# Altium footprint library fromST.PcbLib: 65 footprints (part 2 of 5)
Each footprint in its own frame and in the unit in brackets; x right, y up, seen from the top. Pads: shape width x height; smd on the part's side, far side on the other; paste and mask are expansions set on the pad; w line width, h text height; cw(c..) or ccw(c..) is an arc to the next point about the centre after c.
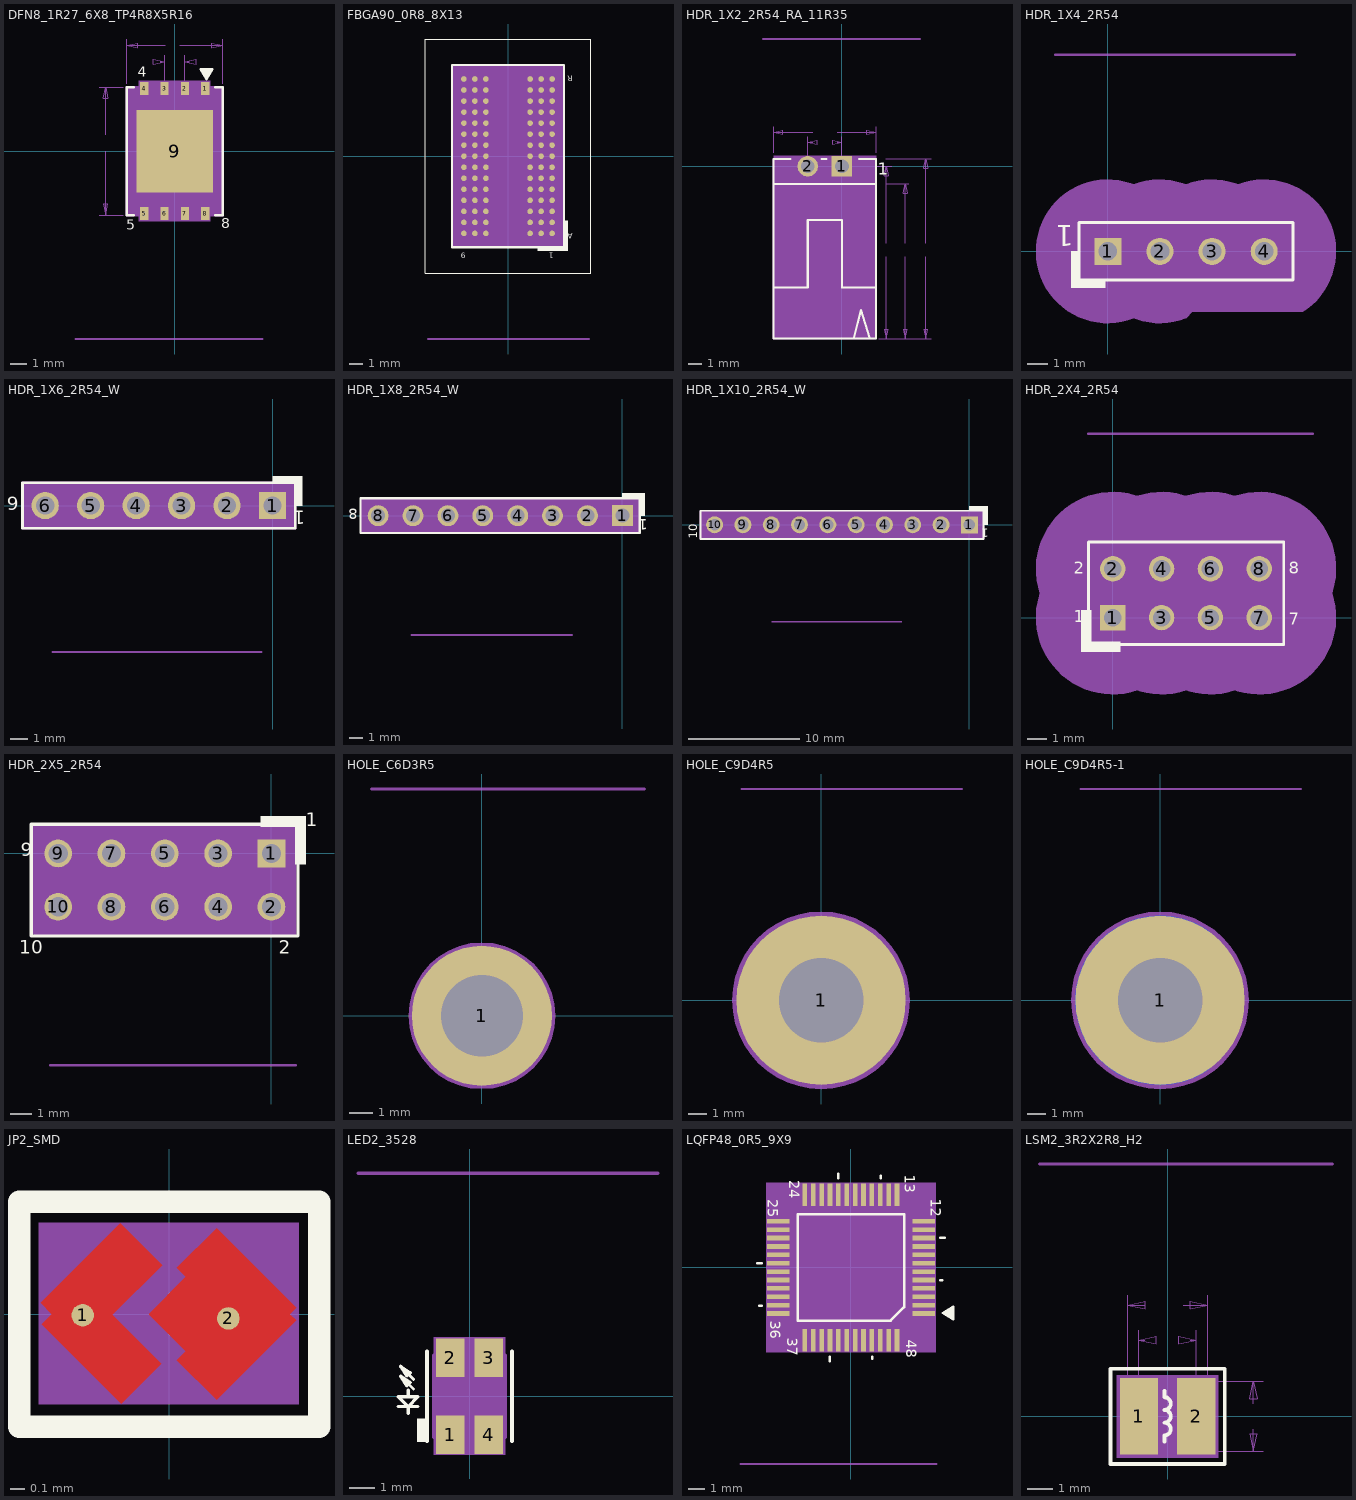
[diagram p1: the footprints below, top view; thin cyan lines are the x and y axes]

## DFN8_1R27_6X8_TP4R8X5R16 [mil]
pads (9):
  rect 20x32 smd: 1(75,153.54) 2(25,153.54) 3(-25,153.54) 4(-75,153.54) 5(-75,-153.54) 6(-25,-153.54) 7(25,-153.54) 8(75,-153.54)
  rect 189x203 smd: 9(0,0)
Top Overlay:
  lines w5: 79,187.5 74,187.5 78,181.5 84,190.5 73,190.5 71,193.5 86,193.5 88,197.5 68,197.5 68,201.5 63,201.5 ; 63,201.5 93,201.5 78,176.5 63,201.5
  lines w6: -100,-157.48 -118.11,-157.48 -118.11,157.48 -100,157.48 ; 100,-157.48 118.11,-157.48 118.11,157.48 100,157.48
  text ".Designator" at -54,230 h30
  text "4" at -91,183 h25
  text "5" at -119,-193 h25
  text "8" at 115,-190 h25
Mechanical 32:
  circle w20: c75,140 r10
  region: -119,160 -119,-160 -88,-160 -88,-173 88,-173 88,-160 120,-160 120,160 88,160 88,173 -88,173 -88,160
  lines w1: -185.75,-157.48 -125.98,-157.48 ; -185.75,157.48 -125.98,157.48 ; -170,0 -170,-157.48 ; -170,40 -170,157.48 ; -118.11,165.35 -118.11,275.75 ; -36,220 -25,220 ; -25,161.42 -25,235.75 ; -23,260 -118.11,260 ; 13,260 118.11,260 ; 25,161.42 25,235.75 ; 36,220 25,220 ; 118.11,165.35 118.11,275.75 ; -170,-157.48 -175.91,-129.92 -164.09,-129.92 -170,-157.48 ; -170,157.48 -164.09,129.92 -175.91,129.92 -170,157.48 ; -118.11,260 -90.55,265.91 -90.55,254.09 -118.11,260 ; -25,220 -52.56,214.09 -52.56,225.91 -25,220 ; 25,220 52.56,225.91 52.56,214.09 25,220 ; 118.11,260 90.55,254.09 90.55,265.91 118.11,260
  lines w5: -244,-462 216,-462 ; -118.11,-157.48 -118.11,157.48 118.11,157.48 118.11,-157.48 -118.11,-157.48
  text "9" at 17.8,-5 h16
  text "4" at -68.6,153.54 h16
  text "8" at 81.4,-153.54 h16
  text "3" at -18.6,153.54 h16
  text "5" at -68.6,-153.54 h16
  text "2" at 31.4,153.54 h16
  text "7" at 31.4,-153.54 h16
  text "6" at -18.6,-153.54 h16
  text "1" at 81.4,153.54 h16
  text "DFN8_1R27_6X8_TP4R8X5R16" at 273,360 h30
  text "N25Q512A13GF840E (MICRON)" at 295,360 h30
  text "Sofer Lib Information" at 216,-472 h25
  text "Ref PN: N25Q512A13GF840E" at 186,-422 h25
  text "Creat : Ziv" at 186,-382 h25
  text "Date  : 2016-02-22" at 186,-342 h25
  text "Rev   : A1" at 186,-302 h25
  text "Remark: D031-019A2" at 186,-262 h25
  text "NO" at 28,0 h35
  text "1.27" at 24,228 h16
  text "6" at 1,268 h16
  text "8" at -164,28 h16
3D body: height 150, standoff 0, extent -119,-173 120,173

## FBGA90_0R8_8X13 [mil]
pads (90):
  round 16 smd mask+2: A1(125.98,-220.47) A2(94.49,-220.47) A3(62.99,-220.47) A7(-62.99,-220.47) A8(-94.49,-220.47) A9(-125.98,-220.47) B1(125.98,-188.98) B2(94.49,-188.98) B3(62.99,-188.98) B7(-62.99,-188.98) B8(-94.49,-188.98) B9(-125.98,-188.98) C1(125.98,-157.48) C2(94.49,-157.48) C3(62.99,-157.48) C7(-62.99,-157.48) C8(-94.49,-157.48) C9(-125.98,-157.48) D1(125.98,-125.98) D2(94.49,-125.98) D3(62.99,-125.98) D7(-62.99,-125.98) D8(-94.49,-125.98) D9(-125.98,-125.98) E1(125.98,-94.49) E2(94.49,-94.49) E3(62.99,-94.49) E7(-62.99,-94.49) E8(-94.49,-94.49) E9(-125.98,-94.49) F1(125.98,-62.99) F2(94.49,-62.99) F3(62.99,-62.99) F7(-62.99,-62.99) F8(-94.49,-62.99) F9(-125.98,-62.99) G1(125.98,-31.5) G2(94.49,-31.5) G3(62.99,-31.5) G7(-62.99,-31.5) G8(-94.49,-31.5) G9(-125.98,-31.5) H1(125.98,0) H2(94.49,0) H3(62.99,0) H7(-62.99,0) H8(-94.49,0) H9(-125.98,0) J1(125.98,31.5) J2(94.49,31.5) J3(62.99,31.5) J7(-62.99,31.5) J8(-94.49,31.5) J9(-125.98,31.5) K1(125.98,62.99) K2(94.49,62.99) K3(62.99,62.99) K7(-62.99,62.99) K8(-94.49,62.99) K9(-125.98,62.99) L1(125.98,94.49) L2(94.49,94.49) L3(62.99,94.49) L7(-62.99,94.49) L8(-94.49,94.49) L9(-125.98,94.49) M1(125.98,125.98) M2(94.49,125.98) M3(62.99,125.98) M7(-62.99,125.98) M8(-94.49,125.98) M9(-125.98,125.98) N1(125.98,157.48) N2(94.49,157.48) N3(62.99,157.48) N7(-62.99,157.48) N8(-94.49,157.48) N9(-125.98,157.48) P1(125.98,188.98) P2(94.49,188.98) P3(62.99,188.98) P7(-62.99,188.98) P8(-94.49,188.98) P9(-125.98,188.98) R1(125.98,220.47) R2(94.49,220.47) R3(62.99,220.47) R7(-62.99,220.47) R8(-94.49,220.47) R9(-125.98,220.47)
Top Overlay:
  pour cut-out: 85,-260 85,-270 170,-270 170,-185 160,-185 160,-260
  lines w1: -236.22,-334.65 236.22,-334.65 236.22,334.65 -236.22,334.65 -236.22,-334.65
  lines w5.91: -160,-260 -160,260 160,260 160,-260 -160,-260
  text "A" at 185,-220 h15.98
  text "1" at 130,-275 h15.98
  text "9" at -120,-275 h15.98
  text "R" at 185,230 h15.98
Mechanical 16:
  pour cut-out: -20,-255 155,-80 155,-255
  region: 155,255.91 -155,255.91 -155,-255.91 155,-255.91
  lines w5: -229,-522 231,-522 ; -157.48,-255.91 157.48,-255.91 157.48,255.91 -157.48,255.91 -157.48,-255.91
Mechanical 32:
  text "OK" at 0,-28 h35
  text "MT48LC4M32B2B5-6A  (MICRON)" at -15,1 h30
  text "FBGA90_0R8_8X13" at -5,145 h30
  text "Remark: ***" at 201,-322 h25
  text "Rev   : A1" at 201,-362 h25
  text "Date  : 2008-07-29" at 201,-402 h25
  text "Creat : Yuki" at 201,-442 h25
  text "Ref PN: MT48LC2M3B2B5" at 201,-482 h25
  text "Sofer Lib Information" at 231,-532 h25
  text ".Designator" at -5,-35 h50
  text "J2" at 94.49,18.7 h16
  text "F2" at 94.49,-75.79 h16
  text "F8" at -94.49,-75.79 h16
  text "J8" at -94.49,18.7 h16
  text "K7" at -62.99,50.19 h16
  text "J1" at 125.98,18.7 h16
  text "J9" at -125.98,18.7 h16
  text "K1" at 125.98,50.19 h16
  text "K9" at -125.98,50.19 h16
  text "E7" at -62.99,-107.29 h16
  text "H7" at -62.99,-12.8 h16
  text "K3" at 62.99,50.19 h16
  text "K2" at 94.49,50.19 h16
  text "H3" at 62.99,-12.8 h16
  text "E2" at 94.49,-107.29 h16
  text "D3" at 62.99,-138.78 h16
  text "D2" at 94.49,-138.78 h16
  text "B1" at 125.98,-201.78 h16
  text "C2" at 94.49,-170.28 h16
  text "A1" at 125.98,-233.27 h16
  text "C3" at 62.99,-170.28 h16
  text "A2" at 94.49,-233.27 h16
  text "A8" at -94.49,-233.27 h16
  text "C7" at -62.99,-170.28 h16
  text "A9" at -125.98,-233.27 h16
  text "C8" at -94.49,-170.28 h16
  text "B9" at -125.98,-201.78 h16
  text "D8" at -94.49,-138.78 h16
  text "D7" at -62.99,-138.78 h16
  text "E8" at -94.49,-107.29 h16
  text "K8" at -94.49,50.19 h16
  text "H8" at -94.49,-12.8 h16
  text "J7" at -62.99,18.7 h16
  text "E3" at 62.99,-107.29 h16
  text "H9" at -125.98,-12.8 h16
  text "G7" at -62.99,-44.3 h16
  text "J3" at 62.99,18.7 h16
  text "H2" at 94.49,-12.8 h16
  text "H1" at 125.98,-12.8 h16
  text "G3" at 62.99,-44.3 h16
  text "G2" at 94.49,-44.3 h16
  text "G1" at 125.98,-44.3 h16
  text "F3" at 62.99,-75.79 h16
  text "F7" at -62.99,-75.79 h16
  text "G9" at -125.98,-44.3 h16
  text "G8" at -94.49,-44.3 h16
  text "N2" at 94.49,144.68 h16
  text "P1" at 125.98,176.18 h16
  text "M2" at 94.49,113.18 h16
  text "M3" at 62.99,113.18 h16
  text "L2" at 94.49,81.69 h16
  text "L8" at -94.49,81.69 h16
  text "M7" at -62.99,113.18 h16
  text "M8" at -94.49,113.18 h16
  text "P9" at -125.98,176.18 h16
  text "N7" at -62.99,144.68 h16
  text "R8" at -94.49,207.67 h16
  text "R2" at 94.49,207.67 h16
  text "N3" at 62.99,144.68 h16
  text "R1" at 125.98,207.67 h16
  text "N8" at -94.49,144.68 h16
  text "R9" at -125.98,207.67 h16
  text "L1" at 125.98,81.69 h16
  text "E1" at 125.98,-107.29 h16
  text "P7" at -62.99,176.18 h16
  text "P2" at 94.49,176.18 h16
  text "B2" at 94.49,-201.78 h16
  text "B7" at -62.99,-201.78 h16
  text "R7" at -62.99,207.67 h16
  text "M9" at -125.98,113.18 h16
  text "N9" at -125.98,144.68 h16
  text "L7" at -62.99,81.69 h16
  text "F9" at -125.98,-75.79 h16
  text "C9" at -125.98,-170.28 h16
  text "D9" at -125.98,-138.78 h16
  text "A7" at -62.99,-233.27 h16
  text "M1" at 125.98,113.18 h16
  text "F1" at 125.98,-75.79 h16
  text "C1" at 125.98,-170.28 h16
  text "D1" at 125.98,-138.78 h16
  text "N1" at 125.98,144.68 h16
  text "P3" at 62.99,176.18 h16
  text "R3" at 62.99,207.67 h16
  text "L3" at 62.99,81.69 h16
  text "A3" at 62.99,-233.27 h16
  text "B3" at 62.99,-201.78 h16
  text "L9" at -125.98,81.69 h16
  text "P8" at -94.49,176.18 h16
  text "E9" at -125.98,-107.29 h16
  text "B8" at -94.49,-201.78 h16
3D body: height 150, standoff 0, extent -155,-255.91 155,255.91

## HDR_1X2_2R54_RA_11R35 [mil]
pads (2):
  rect 60x60 hole 40: 1(0,0)
  round 60 hole 40: 2(-100,0)
Top Overlay:
  lines w6: -200,-354.33 -100,-354.33 -100,-157.48 0,-157.48 0,-354.33 100,-354.33 ; -150,21.65 -200,21.65 -200,-51.18 ; -60,21.65 -45,21.65 ; 35,-499.84 55,-419.84 80,-499.84 ; 50,21.65 100,21.65 100,-503.94 -200,-503.94 -200,-51.18 ; 100,-51.18 -200,-51.18
  text ".Designator" at -246,-128 h34
  text "1" at 105,-25 h35
Mechanical 32:
  circle w20: c0,0 r10
  region: -200,30.16 -200,-504.84 100,-504.84 100,30.16
  lines w1: -200,39.37 -200,115.75 ; -100,7.87 -100,85.75 ; -86,70 -100,70 ; -86,100 -200,100 ; -14,70 0,70 ; -14,100 100,100 ; 0,7.87 0,85.75 ; 7.87,0 145.75,0 ; 100,39.37 100,115.75 ; 107.87,-503.94 145.75,-503.94 ; 127.56,-51.18 195.43,-51.18 ; 127.56,21.65 260.43,21.65 ; 130,-265 130,-503.94 ; 130,-225 130,0 ; 184.69,-264.84 184.69,-503.94 ; 184.69,-224.84 184.69,-51.18 ; 195.43,-503.94 127.56,-503.94 260.43,-503.94 ; 244.69,-264.84 244.69,-503.94 ; 244.69,-224.84 244.69,21.65 ; -200,100 -172.44,105.91 -172.44,94.09 -200,100 ; -100,70 -72.44,75.91 -72.44,64.09 -100,70 ; 0,70 -27.56,64.09 -27.56,75.91 0,70 ; 100,100 72.44,94.09 72.44,105.91 100,100 ; 130,-503.94 124.09,-476.38 135.91,-476.38 130,-503.94 ; 130,0 135.91,-27.56 124.09,-27.56 130,0 ; 184.69,-503.94 178.78,-476.38 190.59,-476.38 184.69,-503.94 ; 184.69,-51.18 190.59,-78.74 178.78,-78.74 184.69,-51.18 ; 244.69,-503.94 238.78,-476.38 250.59,-476.38 244.69,-503.94 ; 244.69,21.65 250.59,-5.91 238.78,-5.91 244.69,21.65
  lines w5: -231,372 229,372 ; -200,-354.33 -100,-354.33 -100,-157.48 0,-157.48 0,-354.33 100,-354.33 ; -200,-51.18 100,-51.18 ; 35,-499.84 55,-419.84 80,-499.84 ; -200,-503.94 100,-503.94 100,21.65 -200,21.65 -200,-503.94
  text "2" at -100,1.4 h16
  text "1" at 0,1.4 h16
  text "Sofer Lib Information" at -231,382 h25
  text "Ref PN: WF25402-06XXX" at -201,332 h25
  text "Creat : Yuki" at -201,292 h25
  text "Date  : 2015-12-07" at -201,252 h25
  text "Rev   : A1" at -201,212 h25
  text "Remark: D031-019A1" at -201,172 h25
  text "HDR_1X2_2R54_RA_11R35" at -10,-353 h30
  text "WF25402-06421" at -65,-449 h30
  text "13.35" at 214.69,-252.84 h16
  text "11.5" at 160.69,-252.84 h16
  text "2.54" at -74,62 h16
  text "7.62" at -74,92 h16
  text "12.8" at 106,-253 h16
3D body: height 150, standoff 0, extent -200,-504.84 100,30.16

## HDR_1X4_2R54 [mil]
pads (4):
  rect 52x52 / inner round 52 / far side rect 52x52 hole 36: 1(0,0)
  round 52 hole 36: 2(100,0) 3(200,0) 4(300,0)
Top Overlay:
  pour cut-out: -55,0 -55,-55 -5,-55 -5,-70 -70,-70 -70,0
  lines w6: -55,-55 355,-55 355,55 -55,55 -55,-55
  text ".Designator" at -145,35 h35
  text "1" at -65,50 h40
Mechanical 16:
  pour cut-out: 350,-50 350,50 -50,50 -50,-50
  region: 350,-50 350,50 -50,50 -50,-50
  region: 50,-128.4 38.62,-132.27 26.94,-135.13 15.06,-136.96 3.07,-137.76 -8.95,-137.5 -20.9,-136.2 -32.69,-133.86 -44.23,-130.5 -55.44,-126.15 -66.22,-120.83 -76.5,-114.6 -86.2,-107.5 -95.24,-99.58 -103.55,-90.9 -111.08,-81.53 -117.77,-71.54 -123.55,-61 -128.4,-50 -132.27,-38.62 -135.13,-26.94 -136.96,-15.06 -137.76,-3.07 -137.5,8.95 -136.2,20.9 -133.86,32.69 -130.5,44.23 -126.15,55.44 -120.83,66.22 -114.6,76.5 -107.5,86.2 -99.58,95.24 -90.9,103.55 -81.53,111.08 -71.54,117.77 -61,123.55 -50,128.4 -38.62,132.27 -26.94,135.13 -15.06,136.96 -3.07,137.76 8.95,137.5 20.9,136.2 32.69,133.86 44.23,130.5 50,128.4 61.38,132.27 73.06,135.13 84.94,136.96 96.93,137.76 108.95,137.5 120.9,136.2 132.69,133.86 144.23,130.5 150,128.4 161.38,132.27 173.06,135.13 184.94,136.96 196.93,137.76 208.95,137.5 220.9,136.2 232.69,133.86 244.23,130.5 250,128.4 261.38,132.27 273.06,135.13 284.94,136.96 296.93,137.76 308.95,137.5 320.9,136.2 332.69,133.86 344.23,130.5 355.44,126.15 366.22,120.83 376.5,114.6 386.2,107.5 395.24,99.58 403.55,90.9 411.08,81.53 417.77,71.54 423.55,61 428.4,50 432.27,38.62 435.13,26.94 436.96,15.06 437.76,3.07 437.5,-8.95 436.2,-20.9 433.86,-32.69 430.5,-44.23 426.15,-55.44 420.83,-66.22 414.6,-76.5 407.5,-86.2 399.58,-95.24 390.9,-103.55 381.53,-111.08 374.21,-116.1 162.3,-116.1 150,-128.4 138.62,-132.27 126.94,-135.13 115.06,-136.96 103.07,-137.76 91.05,-137.5 79.1,-136.2 67.31,-133.86 55.77,-130.5
  lines w1: -50,-50 350,-50 350,50 -50,50 -50,-50
  lines w5: -101,377 359,377 ; -50,-50 -50,50 350,50 350,-50 -50,-50
Mechanical 32:
  text "3" at 206.4,0 h16
  text "1" at 6.4,0 h16
  text "2" at 106.4,0 h16
  text "4" at 306.4,0 h16
  text "Sofer Lib Information" at -101,387 h25
  text "Ref PN: ***" at -71,337 h25
  text "Creat : Sofer Tech" at -71,297 h25
  text "Date  : 2007-11-21" at -71,257 h25
  text "Rev   : B1" at -71,217 h25
  text "Remark: ***" at -71,177 h25
  text "HDR_1X4_2R54" at 244,-110 h30
  text "Header 4" at 191,-110 h30
  text "Approved" at 272,-11.67 h35
3D body: height 150, standoff 0, extent -50,-50 350,50
3D body: height 150, standoff 0, extent -137.76,-137.76 437.76,137.76

## HDR_1X6_2R54_W [mil]
pads (6):
  rect 60x60 / inner round 60 / far side rect 60x60 hole 40: 1(0,0)
  round 60 hole 40: 2(-100,0) 3(-200,0) 4(-300,0) 5(-400,0) 6(-500,0)
Top Overlay:
  pour cut-out: 50,0 65,0 65,65 0,65 0,50 50,50
  lines w6: -550,-50 -550,50 50,50 50,-50 -550,-50
  text ".Designator" at -132.7,-100.8 h35
  text "1" at 72.3,-10.8 h30
  text "6" at -557.7,19.2 h30
Mechanical 16:
  region: -550,50 -550,-50 50,-50 50,50
  lines w5: -484,-322 -24,-322 ; -550,-50 -550,50 50,50 50,-50 -550,-50
Mechanical 32:
  text "6" at -500,-1.07 h16
  text "5" at -399.67,-1.07 h16
  text "2" at -99.67,-1.07 h16
  text "1" at 0.33,-1.07 h16
  text "3" at -199.67,-1.07 h16
  text "4" at -299.67,-1.07 h16
  text "HDR_1X6_2R54" at -245,-24 h30
  text "BL 1-6 G" at -225,24 h30
  text "Sofer Lib Information" at -24,-332 h25
  text "Ref PN: 313106S141" at -54,-282 h25
  text "Creat : Ziv" at -54,-242 h25
  text "Date  : 2015-06-08" at -54,-202 h25
  text "Rev   : A1" at -54,-162 h25
  text "Remark: D031-015A1" at -54,-122 h25
  text "NO" at -245,-18 h35
3D body: height 150, standoff 0, extent -550,-50 50,50

## HDR_1X8_2R54_W [mil]
pads (8):
  rect 60x60 / inner round 60 / far side rect 60x60 hole 40: 1(0,0)
  round 60 hole 40: 2(-100,0) 3(-200,0) 4(-300,0) 5(-400,0) 6(-500,0) 7(-600,0) 8(-700,0)
Top Overlay:
  pour cut-out: 50,0 65,0 65,65 0,65 0,50 50,50
  lines w6: -750,-50 -750,50 50,50 50,-50 -750,-50
  text ".Designator" at -23.3,100.8 h35
  text "1" at 72.3,-10.8 h30
  text "8" at -757.7,19.2 h30
Mechanical 16:
  region: -750,50 -750,-50 50,-50 50,50
  lines w5: -604,-342 -144,-342 ; -750,-50 -750,50 50,50 50,-50 -750,-50
Mechanical 32:
  text "7" at -599.67,-1.07 h16
  text "6" at -500,-1.07 h16
  text "4" at -299.67,-1.07 h16
  text "2" at -99.67,-1.07 h16
  text "5" at -399.67,-1.07 h16
  text "1" at 0.33,-1.07 h16
  text "8" at -699.67,-1.07 h16
  text "3" at -199.67,-1.07 h16
  text "HDR_1X08_2R54" at -355,-11 h30
  text "BL 1-8 G" at -335,49 h30
  text "Sofer Lib Information" at -144,-352 h25
  text "Ref PN: 313108S141" at -174,-302 h25
  text "Creat : Ziv" at -174,-262 h25
  text "Date  : 2015-06-08" at -174,-222 h25
  text "Rev   : A1" at -174,-182 h25
  text "Remark: D031-015A1" at -174,-142 h25
  text "NO" at -350,-18 h35
3D body: height 150, standoff 0, extent -750,-50 50,50

## HDR_1X10_2R54_W [mil]
pads (10):
  rect 60x60 / inner round 60 / far side rect 60x60 hole 40: 1(0,0)
  round 60 hole 40: 2(-100,0) 3(-200,0) 4(-300,0) 5(-400,0) 6(-500,0) 7(-600,0) 8(-700,0) 9(-800,0) 10(-900,0)
Top Overlay:
  pour cut-out: 50,0 65,0 65,65 0,65 0,50 50,50
  lines w6: -950,-50 -950,50 50,50 50,-50 -950,-50
  text ".Designator" at -22.3,100.8 h35
  text "1" at 67.7,-14.2 h30
  text "10" at -962.3,-49.2 h30
Mechanical 16:
  region: -950,50 -950,-50 50,-50 50,50
  lines w1: -950,-50 50,-50 50,50 -950,50 -950,-50
  lines w5: -699,-342 -239,-342 ; -950,-50 -950,50 50,50 50,-50 -950,-50
Mechanical 32:
  text "7" at -599.67,11.73 h16
  text "8" at -699.67,11.73 h16
  text "3" at -199.67,11.73 h16
  text "6" at -500,11.73 h16
  text "10" at -899.67,18.13 h16
  text "9" at -799.67,11.73 h16
  text "5" at -399.67,11.73 h16
  text "4" at -299.67,11.73 h16
  text "2" at -99.67,11.73 h16
  text "1" at 0.33,11.73 h16
  text "HDR_1X10_2R54" at -445,311 h30
  text "BL 1-10 G" at -425,263 h30
  text "Sofer Lib Information" at -239,-352 h25
  text "Ref PN: 313110S141" at -269,-302 h25
  text "Creat : Ziv" at -269,-262 h25
  text "Date  : 2015-06-08" at -269,-222 h25
  text "Rev   : A1" at -269,-182 h25
  text "Remark: D031-015A1" at -269,-142 h25
  text "NO" at -450,38 h35
3D body: height 150, standoff 0, extent -950,-50 50,50

## HDR_2X4_2R54 [mil]
pads (8):
  rect 52x52 / inner round 52 / far side rect 52x52 hole 36: 1(0,0)
  round 52 hole 36: 2(0,100) 3(100,0) 4(100,100) 5(200,0) 6(200,100) 7(300,0) 8(300,100)
Top Overlay:
  pour cut-out: -64.61,15 -44.61,15 -44.61,-50 15.39,-50 15.39,-70 -64.61,-70
  lines w6: -49.61,-55 350.39,-55 350.39,155 -49.61,155 -49.61,-55
  text "1" at -79.61,-10 h25
  text ".Designator" at -85,0 h35
  text "7" at 360.39,-15 h25
  text "8" at 360.39,90 h25
  text "2" at -79.61,90 h25
Mechanical 16:
  drawing of 15 lines, arcs and shapes, not listed
Mechanical 32:
  text "7" at 300,-6.4 h16
  text "8" at 300,93.6 h16
  text "1" at 0,-6.4 h16
  text "2" at 0,93.6 h16
  text "3" at 100,-6.4 h16
  text "6" at 200,93.6 h16
  text "4" at 100,93.6 h16
  text "5" at 200,-6.4 h16
  text "Remark: ***" at -20.61,177 h25
  text "Rev   : B1" at -20.61,217 h25
  text "Date  : 2007-11-25" at -20.61,257 h25
  text "Creat : Sofer Tech" at -20.61,297 h25
  text "Ref PN: ***" at -20.61,337 h25
  text "Sofer Lib Information" at -50.61,387 h25
  text "Approved" at 145.39,-72 h35
  text "Header F Straight 4x2H" at 70.39,-379 h30
  text "HDR_2X4_2R54" at 95.39,-254 h30
3D body: height 150, standoff 0, extent -157.43,-157.43 457.43,257.43
3D body: height 150, standoff 0, extent -44.61,-50 345.39,150

## HDR_2X5_2R54 [mil]
pads (10):
  rect 52x52 / inner round 52 / far side rect 52x52 hole 36: 1(0,0)
  round 52 hole 36: 2(0,-100) 3(-100,0) 4(-100,-100) 5(-200,0) 6(-200,-100) 7(-300,0) 8(-300,-100) 9(-400,0) 10(-400,-100)
Top Overlay:
  pour cut-out: 64.61,-20 44.61,-20 44.61,50 -20.39,50 -20.39,70 64.61,70
  lines w6: -450.39,-155 49.61,-155 49.61,55 -450.39,55 -450.39,-155
  text "2" at 13.82,-187.68 h25
  text "10" at -473.45,-187.67 h25
  text "9" at -470,-5 h25
  text "1" at 64.19,51.22 h25
Mechanical 16:
  region: 44.61,50 -445.39,50 -445.39,-150 44.61,-150
  lines w1: -445.39,-150 44.61,-150 44.61,50 -445.39,50 -445.39,-150
  lines w5: -414.39,-397 45.61,-397 ; -445.39,-150 44.61,-150 44.61,50 -445.39,50 -445.39,-150
Mechanical 32:
  text "2" at 6.4,-100 h16
  text "4" at -93.6,-100 h16
  text "6" at -193.6,-100 h16
  text "8" at -293.6,-100 h16
  text "10" at -387.2,-100 h16
  text "7" at -293.6,0 h16
  text "1" at 6.4,0 h16
  text "9" at -393.6,0 h16
  text "3" at -93.6,0 h16
  text "5" at -193.6,0 h16
  text ".Designator" at -147.39,-30 h40
  text "OK" at -142.39,-50 h35
  text "HDR_2X5_2R54" at 28.61,130 h30
  text "Header M Straight 5x2H" at 193.61,135 h30
  text "Sofer Lib Information" at 45.61,-407 h25
  text "Ref PN: ***" at 15.61,-357 h25
  text "Creat : Sofer Tech" at 15.61,-317 h25
  text "Date  : 2007-05-10" at 15.61,-277 h25
  text "Rev   : A1" at 15.61,-237 h25
  text "Remark: ***" at 15.61,-197 h25
3D body: height 150, standoff 0, extent -445.39,-150 44.61,50

## HOLE_C6D3R5 [mil]
pads (1):
  round 236 hole 138: 1(0,0)
Mechanical 32:
  pour cut-out: 123.36,0 121.84,19.3 117.32,38.12 109.91,56 99.8,72.51 87.23,87.23 72.51,99.8 56,109.91 38.12,117.32 19.3,121.84 0,123.36 -19.3,121.84 -38.12,117.32 -56,109.91 -72.51,99.8 -87.23,87.23 -99.8,72.51 -109.91,56 -117.32,38.12 -121.84,19.3 -123.36,0 -121.84,-19.3 -117.32,-38.12 -109.91,-56 -99.8,-72.51 -87.23,-87.23 -72.51,-99.8 -56,-109.91 -38.12,-117.32 -19.3,-121.84 0,-123.36 19.3,-121.84 38.12,-117.32 56,-109.91 72.51,-99.8 87.23,-87.23 99.8,-72.51 109.91,-56 117.32,-38.12 121.84,-19.3
  lines w5: -186,382 274,382
  text "OK" at -28,0 h35
  text "POSITION HOLE C6D3R5" at -245,-175 h30
  text "HOLE_C6D3R5" at -117,-180 h30
  text "Remark: D075-002A1" at -156,182 h25
  text "Rev   : A1" at -156,222 h25
  text "Date  : 2011-08-26" at -156,262 h25
  text "Creat : Yuki" at -156,302 h25
  text "Ref PN: ***" at -156,342 h25
  text "Sofer Lib Information" at -186,392 h25
  text ".Designator" at -22,-20 h40
  text "1" at -6.4,0 h16
3D body: height 150, standoff 0, extent -123.36,-123.36 123.36,123.36

## HOLE_C9D4R5 [mil]
pads (1):
  round 354 hole 177: 1(0,0)
Mechanical 32:
  pour cut-out: 185.5,0 183.91,24.21 179.18,48.01 171.38,70.99 160.65,92.75 147.16,112.92 131.17,131.17 112.92,147.16 92.75,160.65 70.99,171.38 48.01,179.18 24.21,183.91 0,185.5 -24.21,183.91 -48.01,179.18 -70.99,171.38 -92.75,160.65 -112.92,147.16 -131.17,131.17 -147.16,112.92 -160.65,92.75 -171.38,70.99 -179.18,48.01 -183.91,24.21 -185.5,0 -183.91,-24.21 -179.18,-48.01 -171.38,-70.99 -160.65,-92.75 -147.16,-112.92 -131.17,-131.17 -112.92,-147.16 -92.75,-160.65 -70.99,-171.38 -48.01,-179.18 -24.21,-183.91 0,-185.5 24.21,-183.91 48.01,-179.18 70.99,-171.38 92.75,-160.65 112.92,-147.16 131.17,-131.17 147.16,-112.92 160.65,-92.75 171.38,-70.99 179.18,-48.01 183.91,-24.21
  lines w5: -166,442 294,442
  text "OK" at -28,0 h35
  text "POSITION HOLE" at -121,-260 h30
  text "HOLE_C9D4R5" at -92,-260 h30
  text "Remark: D031-006A1" at -136,242 h25
  text "Rev   : A1" at -136,282 h25
  text "Date  : 2012-08-01" at -136,322 h25
  text "Creat : Yuki" at -136,362 h25
  text "Ref PN: M4 HOLE" at -136,402 h25
  text "Sofer Lib Information" at -166,452 h25
  text ".Designator" at -32,-20 h40
  text "1" at -2.8,-10 h16
3D body: height 150, standoff 0, extent -185.5,-185.5 185.5,185.5

## HOLE_C9D4R5-1 [mil]
pads (1):
  round 354 / inner round 0 / far side round 0 hole 177 mask+4: 1(0,0)
Bottom Layer:
  region: 103.81,-143.36 93.95,-150.5 72.46,-161.95 49.61,-170.34 25.82,-175.53 1.54,-177.41 -22.76,-175.95 -46.64,-171.18 -69.64,-163.18 -91.32,-152.11 -111.29,-138.17 -129.16,-121.63 -144.6,-102.81 -157.31,-82.04 -167.06,-59.73 -173.67,-36.29 -177,-12.17 -177,12.17 -173.67,36.29 -167.06,59.73 -157.31,82.04 -144.6,102.81 -129.16,121.63 -111.29,138.17 -91.32,152.11 -69.64,163.18 -46.64,171.18 -22.76,175.95 1.54,177.41 25.82,175.53 49.61,170.34 72.46,161.95 93.95,150.5 103.81,143.36 104,143.36
Mechanical 16:
  pour cut-out: 185.5,0 183.91,24.21 179.18,48.01 171.38,70.99 160.65,92.75 147.16,112.92 131.17,131.17 112.92,147.16 92.75,160.65 70.99,171.38 48.01,179.18 24.21,183.91 0,185.5 -24.21,183.91 -48.01,179.18 -70.99,171.38 -92.75,160.65 -112.92,147.16 -131.17,131.17 -147.16,112.92 -160.65,92.75 -171.38,70.99 -179.18,48.01 -183.91,24.21 -185.5,0 -183.91,-24.21 -179.18,-48.01 -171.38,-70.99 -160.65,-92.75 -147.16,-112.92 -131.17,-131.17 -112.92,-147.16 -92.75,-160.65 -70.99,-171.38 -48.01,-179.18 -24.21,-183.91 0,-185.5 24.21,-183.91 48.01,-179.18 70.99,-171.38 92.75,-160.65 112.92,-147.16 131.17,-131.17 147.16,-112.92 160.65,-92.75 171.38,-70.99 179.18,-48.01 183.91,-24.21
  lines w5: -166,442 294,442
Mechanical 32:
  text "1" at -2.8,-10 h16
  text ".Designator" at -32,-20 h40
  text "Sofer Lib Information" at -166,452 h25
  text "Ref PN: M4 HOLE" at -136,402 h25
  text "Creat : Yuki" at -136,362 h25
  text "Date  : 2012-08-01" at -136,322 h25
  text "Rev   : A1" at -136,282 h25
  text "Remark: D031-006A1" at -136,242 h25
  text "HOLE_C9D4R5" at -92,-260 h30
  text "POSITION HOLE" at -121,-260 h30
  text "OK" at -28,0 h35
3D body: height 150, standoff 0, extent -185.5,-185.5 185.5,185.5

## JP2_SMD [mil]
pads (2):
  round 6 smd: 1(-23.01,-0.33) 2(15.83,-1.19)
Top Layer:
  region: -34.18,2.96 -12.96,24.18 -1.82,13.04 -15.13,-0.26 -2.09,-13.3 -12.7,-23.91 -33.91,-2.7 -31.22,0
  region: 12.7,22.91 33.91,1.7 32.21,0 33.91,-1.7 12.7,-22.91 2.09,-12.3 4.5,-9.89 -5.39,0 4.5,9.89 2.09,12.3
Top Overlay:
  lines w6: -40,-30 -40,30 40,30 40,-30 -40,-30
Top Paste:
  pour cut-out: -34.18,2.96 -12.96,24.18 -1.82,13.04 -15.13,-0.26 -2.09,-13.3 -12.7,-23.91 -33.91,-2.7 -31.22,0
  pour cut-out: 12.7,22.91 33.91,1.7 32.21,0 33.91,-1.7 12.7,-22.91 2.09,-12.3 4.5,-9.89 -5.39,0 4.5,9.89 2.09,12.3
Top Solder:
  pour cut-out: 12.7,22.91 33.91,1.7 32.21,0 33.91,-1.7 12.7,-22.91 2.09,-12.3 4.5,-9.89 -5.39,0 4.5,9.89 2.09,12.3
  pour cut-out: -34.18,2.96 -12.96,24.18 -1.82,13.04 -15.13,-0.26 -2.09,-13.3 -12.7,-23.91 -33.91,-2.7 -31.22,0
Mechanical 16:
  region: -34.79,-24.13 34.65,-24.13 34.65,24.34 -34.79,24.34
  lines w1: -33,-18.39 33,-18.39 33,18.39 -33,18.39 -33,-18.39
Mechanical 32:
  text ".Designator" at 0,-68 h40
  text "1" at -23.01,-6.73 h16
  text "2" at 15.83,-7.59 h16
3D body: height 150, standoff 0, extent -34.79,-24.13 34.65,24.34

## LED2_3528 [mil]
pads (4):
  rect 44x59 smd: 1(-29.53,-59.06) 2(-29.53,59.06) 3(29.53,59.06) 4(29.53,-59.06)
Top Overlay:
  pour cut-out: -80,-35 -80,-70 -65,-70 -65,-35
  lines w5: -109.09,-16 -79.09,-16 ; -94.09,-26 -94.09,-16 ; -94.09,-1 -94.09,9 ; -85.91,11 -105.91,31 ; -85.91,26 -105.91,46 ; -105.91,31 -95.91,16 -90.91,21 -105.91,31 ; -105.91,46 -95.91,31 -90.91,36 -105.91,46 ; -94.09,-16 -79.09,-1 -104.09,-1 -109.09,-1 -94.09,-16
  lines w6: -65.12,-68.9 -65.12,68.9 ; 65.12,-68.9 65.12,68.9
Mechanical 32:
  circle w5: c0,0 r47.24
  circle w5: c0,0 r36.06
  region: 55,90 -55,90 -55,-90 55,-90
  lines w5: -171,342 289,342 ; -55,-35 -30,-60 ; -43.31,-62.99 -15.75,-62.99 ; -43.31,-62.99 -43.31,-68.9 -15.75,-68.9 -15.75,-62.99 ; -43.31,-62.99 -55.12,-62.99 -55.12,62.99 -43.31,62.99 ; -43.31,62.99 -15.75,62.99 ; -43.31,62.99 -43.31,68.9 -15.75,68.9 -15.75,62.99 ; -15.75,-62.99 15.75,-62.99 ; -15.75,62.99 15.75,62.99 ; 15.75,-62.99 43.31,-62.99 ; 15.75,-62.99 15.75,-68.9 43.31,-68.9 43.31,-62.99 ; 15.75,62.99 43.31,62.99 ; 15.75,62.99 15.75,68.9 43.31,68.9 43.31,62.99 ; 43.31,-62.99 55.12,-62.99 55.12,62.99 43.31,62.99
  text "1" at -31.26,-63.7 h16
  text "3" at 27.79,52.72 h16
  text "4" at 27.79,-63.7 h16
  text "2" at -31.26,52.72 h16
  text ".Designator" at -41,-20 h30
  text "LED2_3528" at -108,-165 h30
  text "LD_BICOLOR_CMS" at -168,-170 h30
  text "Sofer Lib Information" at -171,352 h25
  text "Ref PN: 3528" at -141,302 h25
  text "Creat : Yuki" at -141,262 h25
  text "Date  : 2012-08-03" at -141,222 h25
  text "Rev   : A1" at -141,182 h25
  text "Remark: D031-006A1" at -141,142 h25
  text "OK" at -28,0 h35
3D body: height 150, standoff 0, extent -55,-90 55,90

## LQFP48_0R5_9X9 [mil]
pads (48):
  rect 53x11 smd mask+2: 1(171.26,-108.27) 2(171.26,-88.58) 3(171.26,-68.9) 4(171.26,-49.21) 5(171.26,-29.53) 6(171.26,-9.84) 7(171.26,9.84) 8(171.26,29.53) 9(171.26,49.21) 10(171.26,68.9) 11(171.26,88.58) 12(171.26,108.27) 25(-171.26,108.27) 26(-171.26,88.58) 27(-171.26,68.9) 28(-171.26,49.21) 29(-171.26,29.53) 30(-171.26,9.84) 31(-171.26,-9.84) 32(-171.26,-29.53) 33(-171.26,-49.21) 34(-171.26,-68.9) 35(-171.26,-88.58) 36(-171.26,-108.27)
  rect 11x53 smd mask+2: 13(108.27,171.26) 14(88.58,171.26) 15(68.9,171.26) 16(49.21,171.26) 17(29.53,171.26) 18(9.84,171.26) 19(-9.84,171.26) 20(-29.53,171.26) 21(-49.21,171.26) 22(-68.9,171.26) 23(-88.58,171.26) 24(-108.27,171.26) 37(-108.27,-171.26) 38(-88.58,-171.26) 39(-68.9,-171.26) 40(-49.21,-171.26) 41(-29.53,-171.26) 42(-9.84,-171.26) 43(9.84,-171.26) 44(29.53,-171.26) 45(49.21,-171.26) 46(68.9,-171.26) 47(88.58,-171.26) 48(108.27,-171.26)
Top Overlay:
  lines w5: 226.5,-108 226.5,-103 220.5,-107 229.5,-113 229.5,-102 232.5,-100 232.5,-115 236.5,-117 236.5,-97 240.5,-97 240.5,-92 ; 240.5,-92 240.5,-122 215.5,-107 240.5,-92
  lines w6: -220,10 -210,10 ; -215,-90 -210,-90 ; -50,-220 -50,-210 ; -30,210 -30,220 ; 50,-215 50,-210 ; 70,210 70,215 ; 93,-125 -125,-125 -125,125 125,125 125,-93.5 93.5,-125 ; 210,-30 215,-30 ; 210,70 220,70
  text ".Designator" at 189,-158 h35
  text "48" at 130,-170 h25
  text "37" at -150,-165 h25
  text "36" at -190,-125 h25
  text "25" at -195,160 h25
  text "24" at -145,205 h25
  text "13" at 127,218 h25
  text "12" at 187,161 h25
Mechanical 16:
  region: 199.32,199.32 199.32,-199.32 -199.32,-199.32 -199.32,199.32
  pour cut-out: 199.32,199.32 199.32,-199.32 -199.32,-199.32 -199.32,199.32
  pour cut-out: 88,-180 175,-180 180,-175 180,-88
  lines w1: -177,-177 177,-177 177,177 -177,177 -177,-177
  lines w5: -259,-462 201,-462 ; -177.17,-177.17 -177.17,177.17 177.17,177.17 177.17,-177.17 -177.17,-177.17
Mechanical 32:
  text "35" at -171.26,-101.38 h16
  text "23" at -88.58,158.46 h16
  text "47" at 88.58,-184.06 h16
  text "20" at -29.53,158.46 h16
  text "8" at 171.26,23.13 h16
  text "44" at 29.53,-184.06 h16
  text "2" at 171.26,-94.98 h16
  text "3" at 171.26,-75.3 h16
  text "36" at -171.26,-121.07 h16
  text "24" at -108.27,158.46 h16
  text "1" at 171.26,-114.67 h16
  text "48" at 108.27,-184.06 h16
  text "9" at 171.26,42.81 h16
  text "39" at -68.9,-184.06 h16
  text "13" at 108.27,158.46 h16
  text "12" at 171.26,95.47 h16
  text "26" at -171.26,75.78 h16
  text "15" at 68.9,158.46 h16
  text "27" at -171.26,56.1 h16
  text "32" at -171.26,-42.33 h16
  text "33" at -171.26,-62.01 h16
  text "11" at 171.26,75.78 h16
  text "4" at 171.26,-55.61 h16
  text "14" at 88.58,158.46 h16
  text "46" at 68.9,-184.06 h16
  text "16" at 49.21,158.46 h16
  text "45" at 49.21,-184.06 h16
  text "17" at 29.53,158.46 h16
  text "43" at 9.84,-184.06 h16
  text "19" at -9.84,158.46 h16
  text "42" at -9.84,-184.06 h16
  text "41" at -29.53,-184.06 h16
  text "21" at -49.21,158.46 h16
  text "40" at -49.21,-184.06 h16
  text "22" at -68.9,158.46 h16
  text "29" at -171.26,16.73 h16
  text "37" at -108.27,-184.06 h16
  text "34" at -171.26,-81.7 h16
  text "18" at 9.84,158.46 h16
  text "25" at -171.26,95.47 h16
  text "31" at -171.26,-22.64 h16
  text "28" at -171.26,36.41 h16
  text "38" at -88.58,-184.06 h16
  text "10" at 171.26,56.1 h16
  text "30" at -171.26,-2.96 h16
  text "5" at 171.26,-35.93 h16
  text "6" at 171.26,-16.24 h16
  text "7" at 171.26,3.44 h16
  text "LQFP48_0R6_9X9" at 20,122 h30
  text "STM32F103CBT6" at 60,134 h30
  text "Approved" at 0,-112 h35
  text "Sofer Lib Information" at 201,-472 h25
  text "Ref PN: RTL8211CL-GR" at 171,-422 h25
  text "Creat : Yuki" at 171,-382 h25
  text "Date  : 2007-11-27" at 171,-342 h25
  text "Rev   : B1" at 171,-302 h25
  text "Remark: ***" at 171,-262 h25
3D body: height 150, standoff 0, extent -199.32,-199.32 199.32,199.32

## LSM2_3R2X2R8_H2 [mil]
pads (2):
  rect 60x120 smd: 1(-45.08,0) 2(45.08,0)
Top Overlay:
  lines w6: -5,-40 -5,-30 ccw(c-5,-20) -5,-10 ccw(c-5,0) -5,10 ccw(c-5,20) -5,30 -5,40 ; -90,-75 90,-75 90,75 -90,75 -90,-75
  text ".Designator" at 15,90 h34
Mechanical 32:
  region: -80,-65 80,-65 80,65 -80,65
  lines w1: -62.99,62.99 -62.99,190.75 ; -45.08,7.87 -45.08,135.75 ; -36,120 -45.08,120 ; -35,175 -62.99,175 ; 25,175 62.99,175 ; 36,120 45.08,120 ; 45.08,7.87 45.08,135.75 ; 62.99,62.99 62.99,190.75 ; 70.87,-55.12 150.75,-55.12 ; 70.87,55.12 150.75,55.12 ; 135,-20 135,-55.12 ; 135,20 135,55.12 ; -62.99,175 -35.43,180.91 -35.43,169.09 -62.99,175 ; -45.08,120 -17.52,125.91 -17.52,114.09 -45.08,120 ; 45.08,120 17.52,114.09 17.52,125.91 45.08,120 ; 62.99,175 35.43,169.09 35.43,180.91 62.99,175 ; 135,-55.12 129.09,-27.56 140.91,-27.56 135,-55.12 ; 135,55.12 140.91,27.56 129.09,27.56 135,55.12
  lines w5: -201,397 259,397 ; -62.99,-55.12 62.99,-55.12 62.99,55.12 -62.99,55.12 -62.99,-55.12
  text "1" at -45.08,6.4 h16
  text "2" at 45.08,6.4 h16
  text "LSM_2SM_3R2X2R8_H2" at 45,6 h30
  text "ME3220-562ML" at 10,-56 h30
  text "Sofer Lib Information" at -201,407 h25
  text "Ref PN: ME3220-562ML" at -171,357 h25
  text "Creat : Yuki" at -171,317 h25
  text "Date  : 2015-11-16" at -171,277 h25
  text "Rev   : A1" at -171,237 h25
  text "Remark: D031-019A1" at -171,197 h25
  text "H=2MM" at 5,-80 h35
  text "NO" at 0,28 h35
  text "2.29" at -25,135 h16
  text "3.2" at -23,167 h16
  text "2.8" at 117,-8 h16
3D body: height 150, standoff 0, extent -80,-65 80,65